# EAGLE library part GAME-BOY-CART (library suspectdevgbcart)
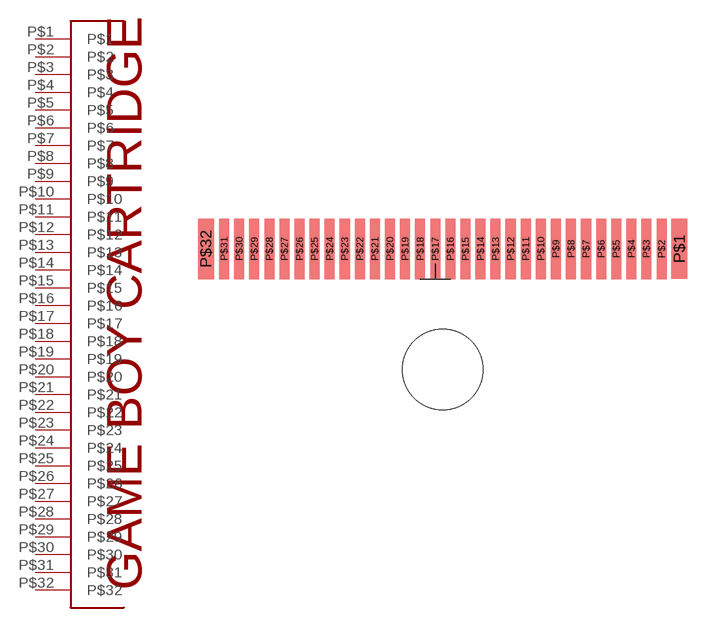
[diagram p0: symbol with the pads of GAMEBOY-CART; footprint GAMEBOY-CART]

Designator prefix -

## GAME-BOY-CART  [GAMEBOY-CART]
P$1  P$1
P$2  P$2
P$3  P$3
P$4  P$4
P$5  P$5
P$6  P$6
P$7  P$7
P$8  P$8
P$9  P$9
P$10  P$10
P$11  P$11
P$12  P$12
P$13  P$13
P$14  P$14
P$15  P$15
P$16  P$16
P$17  P$17
P$18  P$18
P$19  P$19
P$20  P$20
P$21  P$21
P$22  P$22
P$23  P$23
P$24  P$24
P$25  P$25
P$26  P$26
P$27  P$27
P$28  P$28
P$29  P$29
P$30  P$30
P$31  P$31
P$32  P$32

## Footprint GAMEBOY-CART (pad centres in mm)
smd 1.6 x 6: P$1 24.28,24.012; P$32 -22.8,24
smd 1 x 6: P$2 22.509,23.985; P$3 21,24; P$4 19.5,24; P$5 18,24; P$6 16.5,24; P$7 15,24; P$8 13.5,24; P$9 12,24; P$10 10.5,24; P$11 9,24; P$12 7.5,24; P$13 6,24; P$14 4.5,24; P$15 3,24; P$16 1.5,24; P$17 0,24; P$18 -1.5,24; P$19 -3,24; P$20 -4.5,24; P$21 -6,24; P$22 -7.5,24; P$23 -9,24; P$24 -10.5,24; P$25 -12,24; P$26 -13.5,24; P$27 -15,24; P$28 -16.5,24; P$29 -18,24; P$30 -19.5,24; P$31 -21,24
hole 8.001 at 0.755,12.015